# Altium footprint library Footprints.PcbLib: 132 footprints (part 4 of 9)
Each footprint in its own frame and in the unit in brackets; x right, y up, seen from the top. Pads: shape width x height; smd on the part's side, far side on the other; paste and mask are expansions set on the pad; w line width, h text height; cw(c..) or ccw(c..) is an arc to the next point about the centre after c.
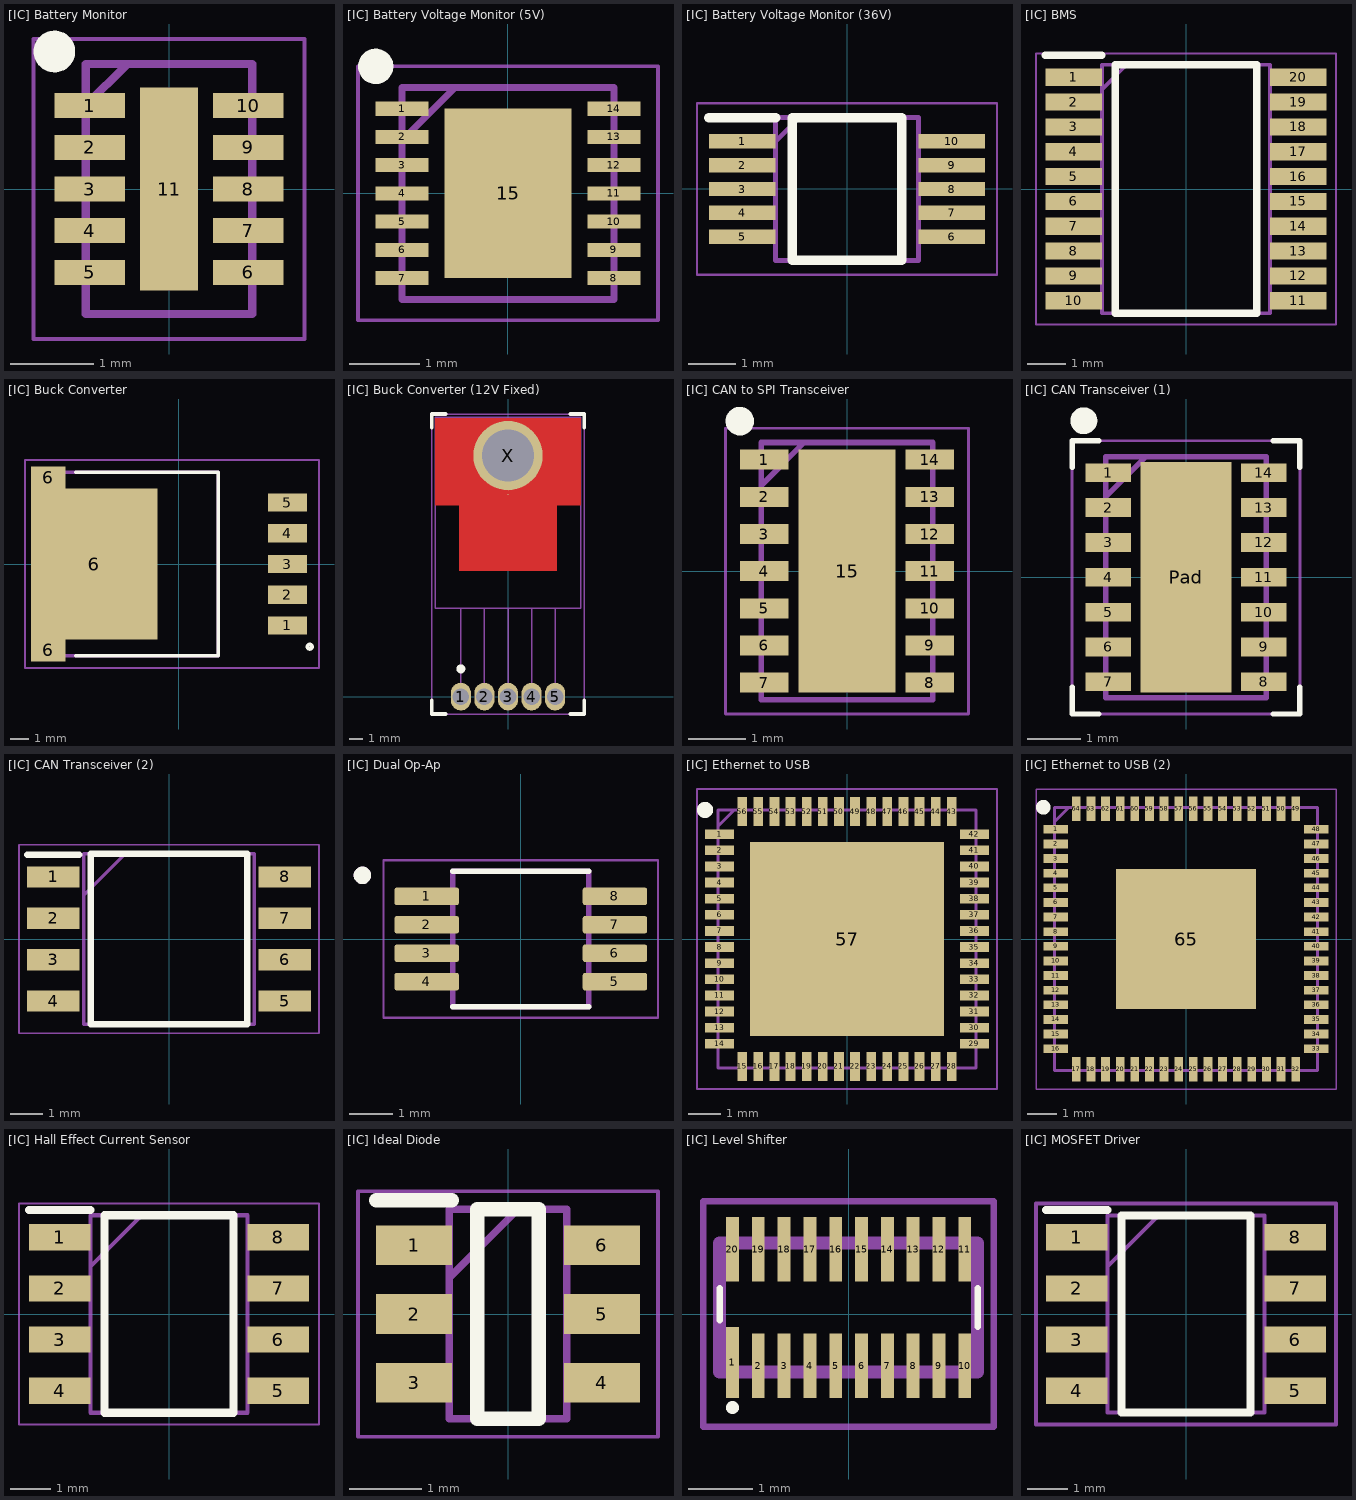
[diagram p3: the footprints below, top view; thin cyan lines are the x and y axes]

## [IC] Battery Monitor [mm] "LTC2959"
pads (11):
  rect 0.85x0.3 smd: 1(-0.95,1) 2(-0.95,0.5) 3(-0.95,0) 4(-0.95,-0.5) 5(-0.95,-1) 6(0.95,-1) 7(0.95,-0.5) 8(0.95,0) 9(0.95,0.5) 10(0.95,1)
  rect 0.69x2.44 smd: 11(0,0)
Top Overlay:
  circle w0.25: c-1.375,1.65 r0.125
Physical Outline:
  lines w0.1: -1,1 -0.5,1.5 ; -1,-1.5 1,-1.5 1,1.5 -1,1.5 -1,-1.5
Part Border:
  lines w0.05: -1.625,-1.8 1.625,-1.8 1.625,1.8 -1.625,1.8 -1.625,-1.8
3D body "LTC2959IDDB#TRMPBF.stp": height 0.8, standoff 0, extent -1.05,-1.5 1.05,1.5

## [IC] Battery Voltage Monitor (5V) [mm] "MAX17260SETD+"
pads (15):
  rect 0.75x0.2 smd: 1(-1.5,1.2) 2(-1.5,0.8) 3(-1.5,0.4) 4(-1.5,0) 5(-1.5,-0.4) 6(-1.5,-0.8) 7(-1.5,-1.2) 8(1.5,-1.2) 9(1.5,-0.8) 10(1.5,-0.4) 11(1.5,0) 12(1.5,0.4) 13(1.5,0.8) 14(1.5,1.2)
  rect 1.8x2.4 smd: 15(0,0)
Top Overlay:
  circle w0.25: c-1.875,1.8 r0.125
Physical Outline:
  lines w0.1: -1.5,0.75 -0.75,1.5 ; -1.5,-1.5 -1.5,1.5 1.5,1.5 1.5,-1.5 -1.5,-1.5
Part Border:
  lines w0.05: -2.125,-1.8 -2.125,1.8 2.125,1.8 2.125,-1.8 -2.125,-1.8
3D body "MAX17260SETD+.stp": height 0.8, standoff 0, extent -1.5,-1.46 1.5,1.54

## [IC] Battery Voltage Monitor (36V) [mm] "INA226AIDGST"
pads (10):
  rect 1.4x0.3 smd: 1(-2.2,1) 2(-2.2,0.5) 3(-2.2,0) 4(-2.2,-0.5) 5(-2.2,-1) 6(2.2,-1) 7(2.2,-0.5) 8(2.2,0) 9(2.2,0.5) 10(2.2,1)
Top Overlay:
  lines w0.2: -2.9,1.5 -1.5,1.5 ; -1.15,-1.5 1.15,-1.5 1.15,1.5 -1.15,1.5 -1.15,-1.5
Physical Outline:
  lines w0.1: -1.5,1 -1,1.5 ; -1.5,-1.5 1.5,-1.5 1.5,1.5 -1.5,1.5 -1.5,-1.5
Part Border:
  lines w0.05: -3.15,-1.8 3.15,-1.8 3.15,1.8 -3.15,1.8 -3.15,-1.8
3D body "INA226AIDGST.stp": height 1.1, standoff 0, extent -2.463,-1.5 2.462,1.5

## [IC] BMS [mm] "BQ7692"
pads (20):
  rect 1.475x0.45 smd: 1(-2.938,2.925) 2(-2.938,2.275) 3(-2.938,1.625) 4(-2.938,0.975) 5(-2.938,0.325) 6(-2.938,-0.325) 7(-2.938,-0.975) 8(-2.938,-1.625) 9(-2.938,-2.275) 10(-2.938,-2.925) 11(2.938,-2.925) 12(2.938,-2.275) 13(2.938,-1.625) 14(2.938,-0.975) 15(2.938,-0.325) 16(2.938,0.325) 17(2.938,0.975) 18(2.938,1.625) 19(2.938,2.275) 20(2.938,2.925)
Top Overlay:
  lines w0.2: -3.675,3.5 -2.2,3.5 ; -1.85,-3.25 -1.85,3.25 1.85,3.25 1.85,-3.25 -1.85,-3.25
Physical Outline:
  lines w0.1: -2.2,2.6 -1.55,3.25 ; -2.2,-3.25 -2.2,3.25 2.2,3.25 2.2,-3.25 -2.2,-3.25
Part Border:
  lines w0.05: -3.925,-3.55 -3.925,3.55 3.925,3.55 3.925,-3.55 -3.925,-3.55
3D body "BQ7692003PW.stp": height 1.13, standoff 0, extent -3.2,-3.25 3.2,3.25

## [IC] Buck Converter [mm] "LM2576"
pads (8):
  rect 2.16x1.02 smd: 1(6,-3.4) 2(6,-1.7) 3(6,0) 4(6,1.7) 5(6,3.4)
  rect 1.91x1.235 smd: 6(-7.215,-4.782) 6(-7.215,4.782)
  rect 6.99x8.33 smd: 6(-4.675,0)
Top Overlay:
  circle w0.2: c7.239,-4.572 r0.126
  lines w0.2: -5.705,-5.08 2.179,-5.08 2.179,5.08 -5.705,5.08
Physical Outline:
  lines w0.2: -6.461,-5.08 2.179,-5.08 2.179,5.08 -6.461,5.08 -6.461,-5.08
Part Border:
  lines w0.1: -8.5,-5.75 -8.5,5.75 7.75,5.75 7.75,-5.75 -8.5,-5.75
3D body "LM2576HVS-12_NOPB.stp": height 4.72, standoff 0, extent -7.571,-5.08 6.779,5.08

## [IC] Buck Converter (12V Fixed) [mm] "LM2576HVT-12"
pads (7):
  oval 1.45x2 hole 1.2: 1(-3.4,0) 2(-1.7,0) 3(0,0) 4(1.7,0) 5(3.4,0)
  round 0.025 smd: X(0,14.573)
  round 5 hole 3.75: X(0,17.375)
Top Layer:
  region: -5.25,13.798 -3.5,13.798 -3.5,9.073 3.5,9.073 3.5,13.798 5.25,13.798 5.25,20.073 -5.25,20.073
Top Overlay:
  circle w0.35: c-3.4,2 r0.15
  lines w0.254: -5.5,-0.25 -5.5,-1.25 -4.5,-1.25 ; -5.5,19.375 -5.5,20.375 -4.5,20.375 ; 4.5,-1.25 5.5,-1.25 5.5,-0.25 ; 4.5,20.375 5.5,20.375 5.5,19.375
Physical Outline:
  lines w0.1: -3.4,0 -3.4,6.375 ; -1.7,0 -1.7,6.375 ; 0,0 0,6.375 ; 1.7,0 1.7,6.375 ; 3.4,0 3.4,6.375 ; -5.25,14.375 -5.25,6.375 5.25,6.375 5.25,14.375 ; -5.25,14.375 5.25,14.375 ; -5.25,14.375 -5.25,20.125 5.25,20.125 5.25,14.375
Part Border:
  lines w0.1: -5.5,-1.25 -5.5,20.375 5.5,20.375 5.5,-1.25 -5.5,-1.25
3D body "[IC] Buck Converter (12V Fixed).STEP": height 5.06, standoff -5.43, extent -5.08,-0.206 5.082,19.962

## [IC] CAN to SPI Transceiver [mm] "MCP2518FDT-E/QBB"
pads (15):
  rect 0.85x0.35 smd: 1(-1.45,1.95) 2(-1.45,1.3) 3(-1.45,0.65) 4(-1.45,0) 5(-1.45,-0.65) 6(-1.45,-1.3) 7(-1.45,-1.95) 8(1.45,-1.95) 9(1.45,-1.3) 10(1.45,-0.65) 11(1.45,0) 12(1.45,0.65) 13(1.45,1.3) 14(1.45,1.95)
  rect 1.7x4.25 smd: 15(0,0)
Top Overlay:
  circle w0.25: c-1.875,2.625 r0.125
Physical Outline:
  lines w0.1: -1.5,1.5 -0.75,2.25 ; -1.5,-2.25 1.5,-2.25 1.5,2.25 -1.5,2.25 -1.5,-2.25
Part Border:
  lines w0.05: -2.125,-2.5 2.125,-2.5 2.125,2.5 -2.125,2.5 -2.125,-2.5
3D body "MCP2518FDT-E_QBB.stp": height 0.9, standoff 0, extent -1.55,-2.25 1.55,2.25

## [IC] CAN Transceiver (1) [mm] "TCAN11623DMTRQ1"
pads (15):
  rect 0.85x0.35 smd: 1(-1.45,1.95) 2(-1.45,1.3) 3(-1.45,0.65) 4(-1.45,0) 5(-1.45,-0.65) 6(-1.45,-1.3) 7(-1.45,-1.95) 8(1.45,-1.95) 9(1.45,-1.3) 10(1.45,-0.65) 11(1.45,0) 12(1.45,0.65) 13(1.45,1.3) 14(1.45,1.95)
  rect 1.7x4.3 smd: Pad(0,0)
Top Overlay:
  circle w0.25: c-1.905,2.921 r0.125
  lines w0.1: -2.125,-2.05 -2.125,-2.55 -1.625,-2.55 ; -2.125,2.05 -2.125,2.55 -1.625,2.55 ; 1.625,-2.55 2.125,-2.55 2.125,-2.05 ; 1.625,2.55 2.125,2.55 2.125,2.05
Physical Outline:
  lines w0.1: -1.5,1.5 -0.75,2.25 ; -1.5,-2.25 -1.5,2.25 1.5,2.25 1.5,-2.25 -1.5,-2.25
Part Border:
  lines w0.05: -2.125,-2.55 -2.125,2.55 2.125,2.55 2.125,-2.55 -2.125,-2.55
3D body "[IC] CAN Transceiver (1).stp": height 1, standoff 0, extent -1.5,-2.25 1.5,2.25

## [IC] CAN Transceiver (2) [mm] "ATA6561-GAQW-N"
pads (8):
  rect 1.6x0.65 smd: 1(-3.55,1.905) 2(-3.55,0.635) 3(-3.55,-0.635) 4(-3.55,-1.905) 5(3.55,-1.905) 6(3.55,-0.635) 7(3.55,0.635) 8(3.55,1.905)
Top Overlay:
  lines w0.2: -4.35,2.58 -2.75,2.58 ; -2.4,-2.615 -2.4,2.615 2.4,2.615 2.4,-2.615 -2.4,-2.615
Physical Outline:
  lines w0.1: -2.615,1.345 -1.345,2.615 ; -2.615,-2.615 -2.615,2.615 2.615,2.615 2.615,-2.615 -2.615,-2.615
Part Border:
  lines w0.05: -4.6,-2.89 -4.6,2.89 4.6,2.89 4.6,-2.89 -4.6,-2.89
3D body "W25Q128JVSIQ_TR.stp": height 1.95, standoff 0, extent -3.9,-2.615 3.9,2.615

## [IC] Dual Op-Ap [mm] "LMV358IDGKR"
pads (8):
  rrect25% 1.47x0.4 smd: 1(-2.15,0.975) 2(-2.15,0.325) 3(-2.15,-0.325) 4(-2.15,-0.975) 5(2.15,-0.975) 6(2.15,-0.325) 7(2.15,0.325) 8(2.15,0.975)
Top Overlay:
  circle w0.2: c-3.62,1.455 r0.1
  lines w0.127: -1.55,-1.55 1.55,-1.55 ; -1.55,1.55 1.55,1.55
Physical Outline:
  circle w0.2: c-3.62,1.455 r0.1
  lines w0.127: -1.55,-1.55 1.55,-1.55 1.55,1.55 -1.55,1.55 -1.55,-1.55
Part Border:
  lines w0.05: -3.135,-1.8 3.135,-1.8 3.135,1.8 -3.135,1.8 -3.135,-1.8
3D body "SMD Dual Op-Ap (LMV358IDGKR).STEP": height 1.1, standoff 0, extent -2.45,-1.5 2.45,1.5

## [IC] Ethernet to USB [mm] "LAN7500I-ABZJ"
pads (57):
  rect 0.9x0.3 smd: 1(-3.95,3.25) 2(-3.95,2.75) 3(-3.95,2.25) 4(-3.95,1.75) 5(-3.95,1.25) 6(-3.95,0.75) 7(-3.95,0.25) 8(-3.95,-0.25) 9(-3.95,-0.75) 10(-3.95,-1.25) 11(-3.95,-1.75) 12(-3.95,-2.25) 13(-3.95,-2.75) 14(-3.95,-3.25) 29(3.95,-3.25) 30(3.95,-2.75) 31(3.95,-2.25) 32(3.95,-1.75) 33(3.95,-1.25) 34(3.95,-0.75) 35(3.95,-0.25) 36(3.95,0.25) 37(3.95,0.75) 38(3.95,1.25) 39(3.95,1.75) 40(3.95,2.25) 41(3.95,2.75) 42(3.95,3.25)
  rect 0.3x0.9 smd: 15(-3.25,-3.95) 16(-2.75,-3.95) 17(-2.25,-3.95) 18(-1.75,-3.95) 19(-1.25,-3.95) 20(-0.75,-3.95) 21(-0.25,-3.95) 22(0.25,-3.95) 23(0.75,-3.95) 24(1.25,-3.95) 25(1.75,-3.95) 26(2.25,-3.95) 27(2.75,-3.95) 28(3.25,-3.95) 43(3.25,3.95) 44(2.75,3.95) 45(2.25,3.95) 46(1.75,3.95) 47(1.25,3.95) 48(0.75,3.95) 49(0.25,3.95) 50(-0.25,3.95) 51(-0.75,3.95) 52(-1.25,3.95) 53(-1.75,3.95) 54(-2.25,3.95) 55(-2.75,3.95) 56(-3.25,3.95)
  rect 6x6 smd: 57(0,0)
Top Overlay:
  circle w0.25: c-4.4,4 r0.125
Physical Outline:
  lines w0.1: -4,3.5 -3.5,4 ; -4,-4 4,-4 4,4 -4,4 -4,-4
Part Border:
  lines w0.05: -4.65,-4.65 4.65,-4.65 4.65,4.65 -4.65,4.65 -4.65,-4.65
3D body "LAN7500I-ABZJ.stp": height 1, standoff 0, extent -4.05,-4.05 4.05,4.05

## [IC] Ethernet to USB (2) [mm] "LAN9513"
pads (65):
  rect 0.85x0.3 smd: 1(-4.45,3.75) 2(-4.45,3.25) 3(-4.45,2.75) 4(-4.45,2.25) 5(-4.45,1.75) 6(-4.45,1.25) 7(-4.45,0.75) 8(-4.45,0.25) 9(-4.45,-0.25) 10(-4.45,-0.75) 11(-4.45,-1.25) 12(-4.45,-1.75) 13(-4.45,-2.25) 14(-4.45,-2.75) 15(-4.45,-3.25) 16(-4.45,-3.75) 33(4.45,-3.75) 34(4.45,-3.25) 35(4.45,-2.75) 36(4.45,-2.25) 37(4.45,-1.75) 38(4.45,-1.25) 39(4.45,-0.75) 40(4.45,-0.25) 41(4.45,0.25) 42(4.45,0.75) 43(4.45,1.25) 44(4.45,1.75) 45(4.45,2.25) 46(4.45,2.75) 47(4.45,3.25) 48(4.45,3.75)
  rect 0.3x0.85 smd: 17(-3.75,-4.45) 18(-3.25,-4.45) 19(-2.75,-4.45) 20(-2.25,-4.45) 21(-1.75,-4.45) 22(-1.25,-4.45) 23(-0.75,-4.45) 24(-0.25,-4.45) 25(0.25,-4.45) 26(0.75,-4.45) 27(1.25,-4.45) 28(1.75,-4.45) 29(2.25,-4.45) 30(2.75,-4.45) 31(3.25,-4.45) 32(3.75,-4.45) 49(3.75,4.45) 50(3.25,4.45) 51(2.75,4.45) 52(2.25,4.45) 53(1.75,4.45) 54(1.25,4.45) 55(0.75,4.45) 56(0.25,4.45) 57(-0.25,4.45) 58(-0.75,4.45) 59(-1.25,4.45) 60(-1.75,4.45) 61(-2.25,4.45) 62(-2.75,4.45) 63(-3.25,4.45) 64(-3.75,4.45)
  rect 4.8x4.8 smd: 65(0,0)
Top Overlay:
  circle w0.25: c-4.875,4.5 r0.125
Physical Outline:
  lines w0.1: -4.5,4 -4,4.5 ; -4.5,-4.5 -4.5,4.5 4.5,4.5 4.5,-4.5 -4.5,-4.5
Part Border:
  lines w0.05: -5.125,-5.125 -5.125,5.125 5.125,5.125 5.125,-5.125 -5.125,-5.125
3D body "USB2517-JZX.stp": height 1, standoff 0, extent -4.55,-4.55 4.55,4.55

## [IC] Hall Effect Current Sensor [mm] "TMCS1100"
pads (8):
  rect 1.528x0.65 smd: 1(-2.711,1.905) 2(-2.711,0.635) 3(-2.711,-0.635) 4(-2.711,-1.905) 5(2.711,-1.905) 6(2.711,-0.635) 7(2.711,0.635) 8(2.711,1.905)
Top Overlay:
  lines w0.2: -3.475,2.58 -1.948,2.58 ; -1.598,-2.452 1.598,-2.452 1.598,2.452 -1.598,2.452 -1.598,-2.452
Physical Outline:
  lines w0.1: -1.948,1.182 -0.678,2.452 ; -1.948,-2.452 1.948,-2.452 1.948,2.452 -1.948,2.452 -1.948,-2.452
Part Border:
  lines w0.05: -3.725,-2.75 3.725,-2.75 3.725,2.75 -3.725,2.75 -3.725,-2.75
3D body "TMCS1100A3QDR.stp": height 1.63, standoff 0, extent -3.011,-2.451 3.011,2.451

## [IC] Ideal Diode [mm] "LTC4412"
pads (6):
  rect 1.05x0.55 smd: 1(-1.3,0.95) 2(-1.3,0) 3(-1.3,-0.95) 4(1.3,-0.95) 5(1.3,0) 6(1.3,0.95)
Top Overlay:
  lines w0.2: -1.825,1.575 -0.775,1.575 ; -0.425,-1.45 -0.425,1.45 0.425,1.45 0.425,-1.45 -0.425,-1.45
Physical Outline:
  lines w0.1: -0.812,0.5 0.138,1.45 ; -0.812,-1.45 -0.812,1.45 0.812,1.45 0.812,-1.45 -0.812,-1.45
Part Border:
  lines w0.05: -2.075,-1.7 -2.075,1.7 2.075,1.7 2.075,-1.7 -2.075,-1.7
3D body "LTC4412IS6#TRPBF.stp": height 1, standoff 0, extent -1.4,-1.45 1.4,1.45

## [IC] Level Shifter [mm] "TXB0108DQSR"
pads (20):
  rect 0.2x1.1 smd: 1(-1.8,-0.75)
  rect 0.2x1 smd: 2(-1.4,-0.8) 3(-1,-0.8) 4(-0.6,-0.8) 5(-0.2,-0.8) 6(0.2,-0.8) 7(0.6,-0.8) 8(1,-0.8) 9(1.4,-0.8) 10(1.8,-0.8) 11(1.8,1) 12(1.4,1) 13(1,1) 14(0.6,1) 15(0.2,1) 16(-0.2,1) 17(-0.6,1) 18(-1,1) 19(-1.4,1) 20(-1.8,1)
Top Overlay:
  lines w0.1: -2,-0.1 -2,0.4 ; 2,-0.2 2,0.4 ; -1.85,-1.45 cw(c-1.8,-1.45) -1.75,-1.45 cw(c-1.8,-1.45) -1.85,-1.45
Physical Outline:
  lines w0.2: -2,-0.9 2,-0.9 2,1.1 -2,1.1 -2,-0.9
Part Border:
  lines w0.1: -2.25,-1.75 2.25,-1.75 2.25,1.75 -2.25,1.75 ; -2.25,-1.75 -2.25,1.75
3D body "TXB0108DQSR.stp": height 0.55, standoff 0, extent -2,-0.9 2,1.1

## [IC] MOSFET Driver [mm] "MIC2026-2YM"
pads (8):
  rect 1.525x0.65 smd: 1(-2.712,1.905) 2(-2.712,0.635) 3(-2.712,-0.635) 4(-2.712,-1.905) 5(2.712,-1.905) 6(2.712,-0.635) 7(2.712,0.635) 8(2.712,1.905)
Top Overlay:
  lines w0.2: -3.475,2.58 -1.95,2.58 ; -1.6,-2.445 1.6,-2.445 1.6,2.445 -1.6,2.445 -1.6,-2.445
Physical Outline:
  lines w0.1: -1.95,1.175 -0.68,2.445 ; -1.95,-2.445 1.95,-2.445 1.95,2.445 -1.95,2.445 -1.95,-2.445
Part Border:
  lines w0.1: -3.725,-2.74 3.725,-2.74 3.725,2.74 -3.725,2.74 -3.725,-2.74
3D body "MIC2026-2YM.stp": height 1.73, standoff 0, extent -2.995,-2.445 2.995,2.445